# Altium footprint library FixingHoles.PcbLib: 2 footprints
Each footprint in its own frame and in the unit in brackets; x right, y up, seen from the top. Pads: shape width x height; smd on the part's side, far side on the other; paste and mask are expansions set on the pad; w line width, h text height; cw(c..) or ccw(c..) is an arc to the next point about the centre after c.
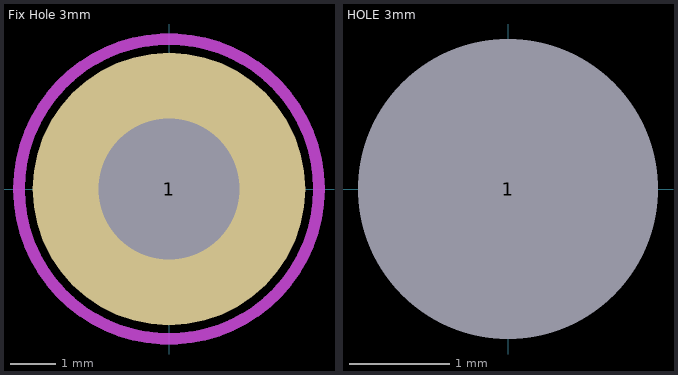
[diagram p0: the footprints below, top view; thin cyan lines are the x and y axes]

## Fix Hole 3mm [mm]
height 3
pads (1):
  round 6 hole 3.1: 1(0,0)
Mechanical 15 keep-out:
  circle w0.254: c0,0 r3.3

## HOLE 3mm [mil] "3mm diameter hole"
pads (1):
  round 60 hole 118.11 unplated: 1(0,0)